# Altium schematic symbol library Hotels_Lock_Main_V1.SchLib: 27 symbols
Pins are listed as number, name and electrical type; pins without a type are passive.

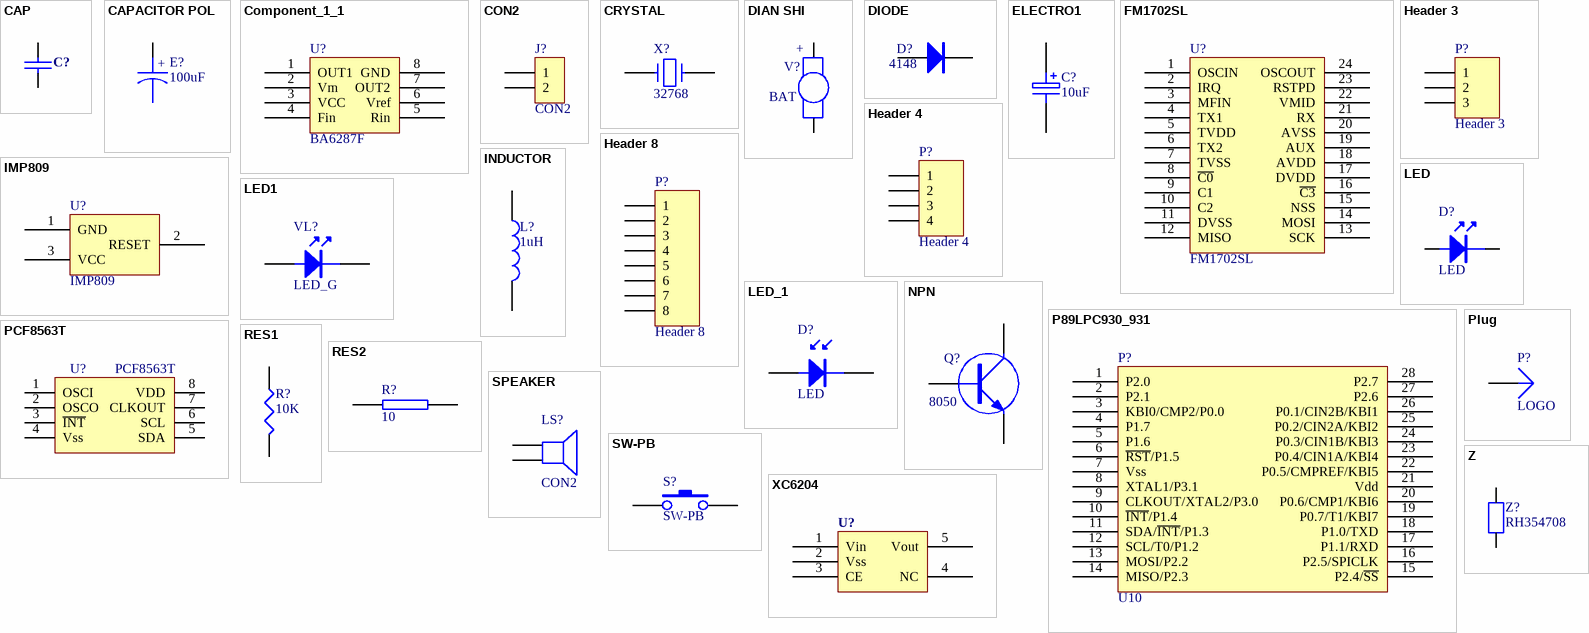
[diagram p0: symbols CAP to Z]

## CAP
designator C?, comment 0.1uF  (value not drawn)
Capacitor
footprint 0603C
pins: 1, 2

## CAPACITOR POL
designator E?, comment 100uF
footprint 1206EC
pins: 1, 2
text: +

## Component_1_1
designator U?, comment BA6287F
footprint SOP-8
pins: 1 OUT1 (power), 2 Vm (power), 3 VCC (power), 4 Fin (power), 5 Rin (power), 6 Vref (power), 7 OUT2 (power), 8 GND (power)

## CON2
designator J?
Connector
footprint CON2-2
pins: 1, 2

## CRYSTAL
designator X?, comment 32768
Crystal
footprint XTAL3
pins: 1, 2

## DIAN SHI
designator V?, comment BAT
footprint SMBAT
pins: 1 +, 2 -

## DIODE
designator D?, comment 4148
Diode
footprint 1206D_1
pins: 1, 2

## ELECTRO1
designator C?, comment 10uF
Electrolytic Capacitor
footprint 0805EC
pins: 1, 2

## FM1702SL
designator U?
footprint SO24W
pins: 1 OSCIN, 2 IRQ, 3 MFIN, 4 TX1, 5 TVDD, 6 TX2, 7 TVSS, 8 ~{C0}, 9 C1, 10 C2, 11 DVSS, 12 MISO, 13 SCK, 14 MOSI, 15 NSS, 16 ~{C3}, 17 DVDD, 18 AVDD, 19 AUX, 20 AVSS, 21 RX, 22 VMID, 23 RSTPD, 24 OSCOUT

## Header 3
designator P?
Header, 3-Pin; LatestRevisionDate: 17-Jul-2002; LatestRevisionNote: Re-released for DXP Platform.; Publisher: Altium Limited
footprint CON3-2
signal-integrity model Connector
pins: 1, 2, 3

## Header 4
designator P?
Header, 4-Pin; LatestRevisionDate: 17-Jul-2002; LatestRevisionNote: Re-released for DXP Platform.; Publisher: Altium Limited
footprint HDR1X4 (Connector; Header; 4 Position)
signal-integrity model Connector
pins: 1, 2, 3, 4

## Header 8
designator P?
Header, 8-Pin; LatestRevisionDate: 17-Jul-2002; LatestRevisionNote: Re-released for DXP Platform.; Publisher: Altium Limited
footprint CON8-2
signal-integrity model Connector
pins: 1, 2, 3, 4, 5, 6, 7, 8

## IMP809
designator U?
footprint SOT-23
pins: 1 GND, 2 RESET, 3 VCC

## INDUCTOR
designator L?, comment 1uH
footprint L1
pins: 1, 2

## LED
designator D?
footprint LED1_S
pins: 1 K, 2 A

## LED1
designator VL?, comment LED_G
footprint 0805EC_2
pins: 1, 2
2 alternate drawings of the same symbol

## LED_1
designator D?, comment LED
footprint LED1_R
pins: 1, 2

## NPN
designator Q?, comment 8050
NPN Transistor
footprint SOT-23
pins: 1 B, 2 C, 3 E

## P89LPC930_931
designator P?, comment U10
footprint TSSOP28
pins: 1 P2.0, 2 P2.1, 3 KBI0/CMP2/P0.0, 4 P1.7, 5 P1.6, 6 ~{RST}/P1.5, 7 Vss, 8 XTAL1/P3.1, 9 CLKOUT/XTAL2/P3.0, 10 ~{INT}/P1.4, 11 SDA/~{INT}/P1.3, 12 SCL/T0/P1.2, 13 MOSI/P2.2, 14 MISO/P2.3, 15 P2.4/~{SS}, 16 P2.5/SPICLK, 17 P1.1/RXD, 18 P1.0/TXD, 19 P0.7/T1/KBI7, 20 P0.6/CMP1/KBI6, 21 Vdd, 22 P0.5/CMPREF/KBI5, 23 P0.4/CIN1A/KBI4, 24 P0.3/CIN1B/KBI3, 25 P0.2/CIN2A/KBI2, 26 P0.1/CIN2B/KBI1, 27 P2.6, 28 P2.7

## PCF8563T
designator U?
footprint SOP-8
pins: 1 OSCI, 2 OSCO, 3 ~{INT}, 4 Vss, 5 SDA, 6 SCL, 7 CLKOUT, 8 VDD

## Plug
designator P?, comment LOGO
Plug; LatestRevisionDate: 17-Jul-2002; LatestRevisionNote: Re-released for DXP Platform.; Publisher: Altium Limited
footprint LOGO_apoton
signal-integrity model Connector
pins: 1

## RES1
designator R?, comment 10K
footprint 0603
pins: 1, 2

## RES2
designator R?, comment 10
footprint 0603
footprint 0603R
pins: 1, 2

## SPEAKER
designator LS?, comment CON2
footprint BUZA_M
pins: 1, 2

## SW-PB
designator S?
footprint KEY-B4
pins: 1, 2

## XC6204
designator U?, comment XC6201P332MR  (value not drawn)
footprint SOT-25
pins: 1 Vin, 2 Vss, 3 CE, 4 NC, 5 Vout

## Z
designator Z?, comment RH354708
footprint L1
pins: 1, 2